# Altium footprint library cricket-node-hw__B.PcbLib: 47 footprints (part 1 of 3)
Each footprint in its own frame and in the unit in brackets; x right, y up, seen from the top. Pads: shape width x height; smd on the part's side, far side on the other; paste and mask are expansions set on the pad; w line width, h text height; cw(c..) or ccw(c..) is an arc to the next point about the centre after c.
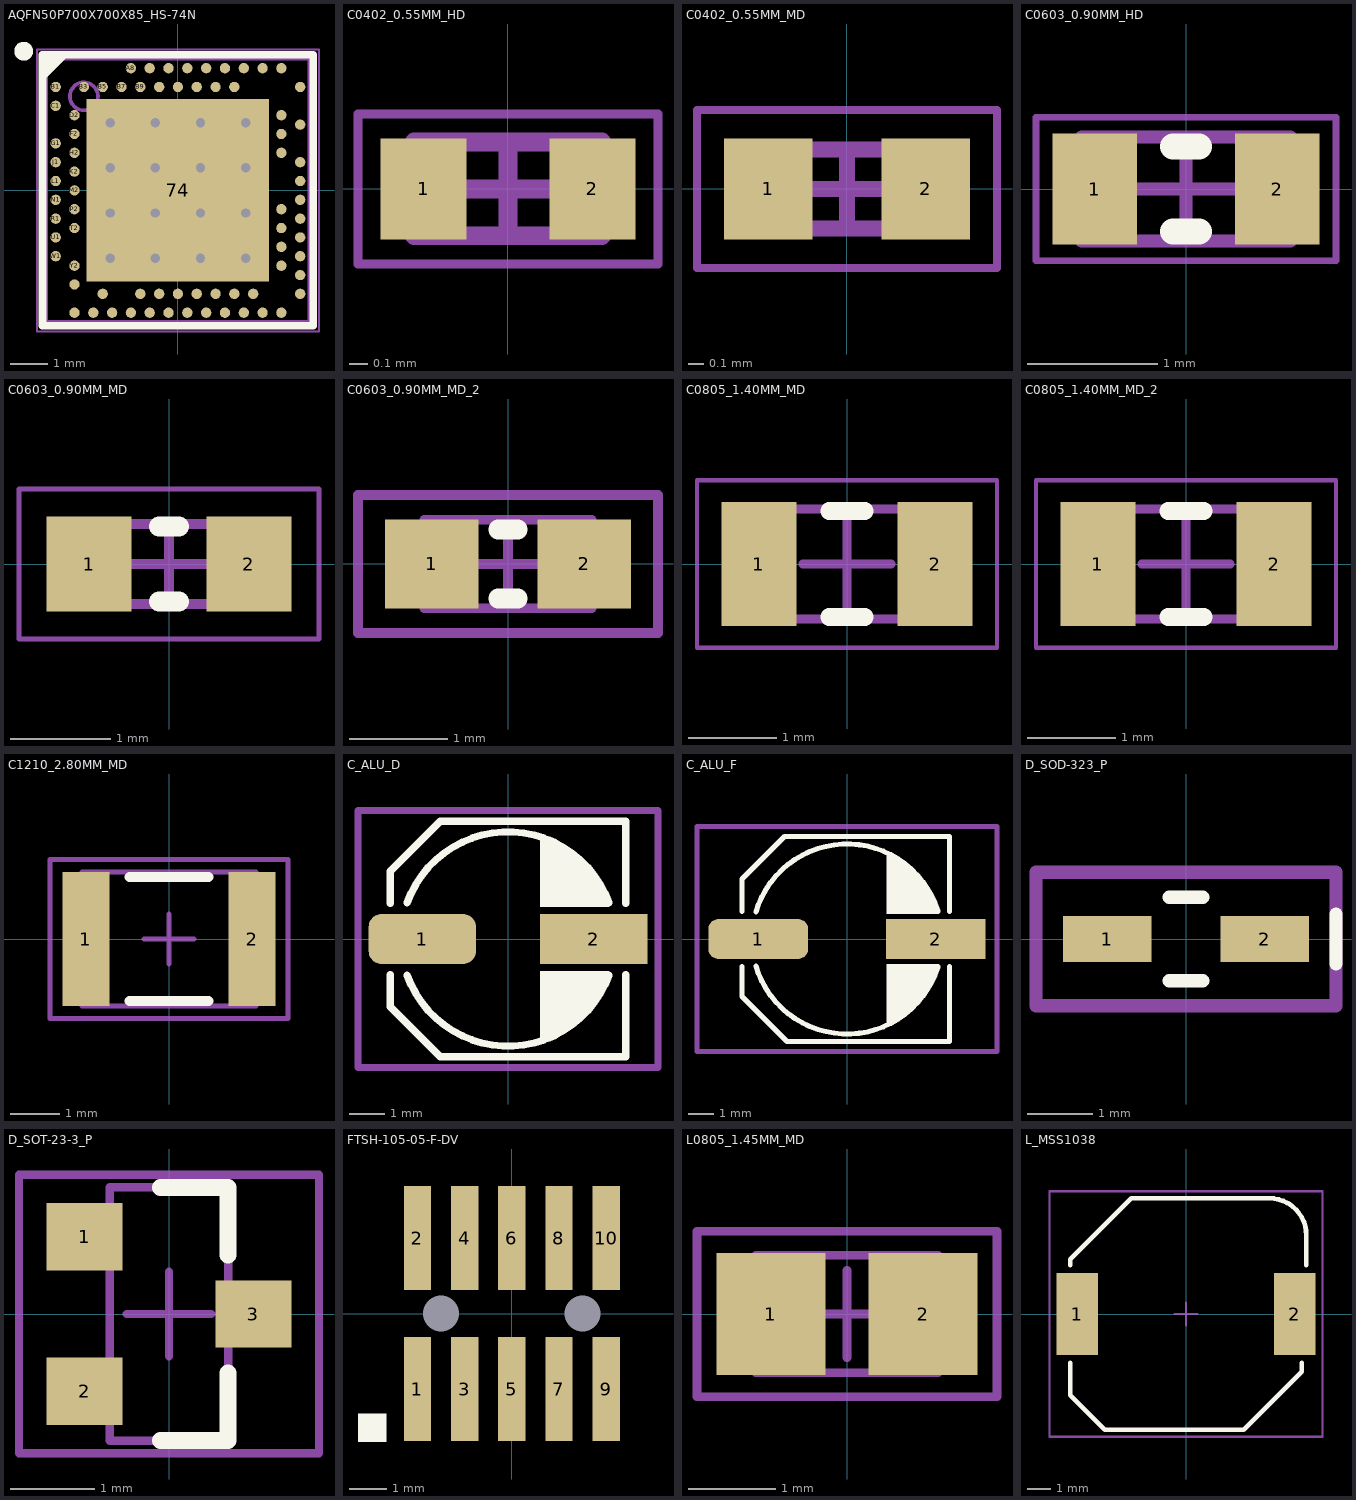
[diagram p0: the footprints below, top view; thin cyan lines are the x and y axes]

## AQFN50P700X700X85_HS-74N [mm] "AQFN, 73-Leads, Body 7.00x7.00mm, Pitch 0.50mm, Thermal Pad 4.95x4.95mm, IPC Medium Density"
height 0.85
pads (74):
  rect 4.85x4.85 smd mask+0.05: 74(0,0)
  round 0.275 smd paste+0.012 mask+0.05: A8(-1.25,3.25) A10(-0.75,3.25) A12(-0.25,3.25) A14(0.25,3.25) A16(0.75,3.25) A18(1.25,3.25) A20(1.75,3.25) A22(2.25,3.25) A23(2.75,3.25) AA24(3.25,-2.25) AB2(-2.75,-2.5) AC5(-2,-2.75) AC9(-1,-2.75) AC11(-0.5,-2.75) AC13(0,-2.75) AC15(0.5,-2.75) AC17(1,-2.75) AC19(1.5,-2.75) AC21(2,-2.75) AC24(3.25,-2.75) AD2(-2.75,-3.25) AD4(-2.25,-3.25) AD6(-1.75,-3.25) AD8(-1.25,-3.25) AD10(-0.75,-3.25) AD12(-0.25,-3.25) AD14(0.25,-3.25) AD16(0.75,-3.25) AD18(1.25,-3.25) AD20(1.75,-3.25) AD22(2.25,-3.25) AD23(2.75,-3.25) B1(-3.25,2.75) B3(-2.5,2.75) B5(-2,2.75) B7(-1.5,2.75) B9(-1,2.75) B11(-0.5,2.75) B13(0,2.75) B15(0.5,2.75) B17(1,2.75) B19(1.5,2.75) B24(3.25,2.75) C1(-3.25,2.25) D2(-2.75,2) D23(2.75,2) E24(3.25,1.75) F2(-2.75,1.5) F23(2.75,1.5) G1(-3.25,1.25) H2(-2.75,1) H23(2.75,1) J1(-3.25,0.75) J24(3.25,0.75) K2(-2.75,0.5) L1(-3.25,0.25) L24(3.25,0.25) M2(-2.75,0) N1(-3.25,-0.25) N24(3.25,-0.25) P2(-2.75,-0.5) P23(2.75,-0.5) R1(-3.25,-0.75) R24(3.25,-0.75) T2(-2.75,-1) T23(2.75,-1) U1(-3.25,-1.25) U24(3.25,-1.25) V23(2.75,-1.5) W1(-3.25,-1.75) W24(3.25,-1.75) Y2(-2.75,-2) Y23(2.75,-2)
via 1.8,-1.8 diameter 0.5 hole 0.25
via 0.6,-1.8 diameter 0.5 hole 0.25
via -0.6,-1.8 diameter 0.5 hole 0.25
via -1.8,-1.8 diameter 0.5 hole 0.25
via 1.8,-0.6 diameter 0.5 hole 0.25
via 0.6,-0.6 diameter 0.5 hole 0.25
via -0.6,-0.6 diameter 0.5 hole 0.25
via -1.8,-0.6 diameter 0.5 hole 0.25
via 1.8,0.6 diameter 0.5 hole 0.25
via 0.6,0.6 diameter 0.5 hole 0.25
via -0.6,0.6 diameter 0.5 hole 0.25
via -1.8,0.6 diameter 0.5 hole 0.25
via 1.8,1.8 diameter 0.5 hole 0.25
via 0.6,1.8 diameter 0.5 hole 0.25
via -0.6,1.8 diameter 0.5 hole 0.25
via -1.8,1.8 diameter 0.5 hole 0.25
Top Overlay:
  circle w0.25: c-4.1,3.7 r0.125
  region: -3,3.5 -3.5,3 -3.5,3.5
  lines w0.2: -3.6,-3.6 3.6,-3.6 3.6,3.6 -3.6,3.6 -3.6,-3.6
Top Courtyard:
  lines w0.05: -3.75,-3.75 3.75,-3.75 3.75,3.75 -3.75,3.75 -3.75,-3.75
  lines w0.1: -0.5,0 0.5,0 ; 0,-0.5 0,0.5
Mechanical 7:
  circle w0.1: c-2.5,2.5 r0.373
  lines w0.1: -3.5,-3.5 -3.5,3.5 3.5,3.5 3.5,-3.5 -3.5,-3.5
  text ".Designator" at -1.524,-0.102 h0.3
3D body "aQFN-73.step": height 0.87, standoff -0.03, extent -3.5,-3.5 3.5,3.5

## C0402_0.55MM_HD [mm] "Chip Capacitor, 2-Leads, Body 1.00x0.50mm, IPC High Density"
height 0.55
pads (2):
  rect 0.46x0.54 smd: 1(-0.45,0) 2(0.45,0)
Mechanical 13:
  lines w0.1: -0.5,-0.25 -0.5,0.25 0.5,0.25 0.5,-0.25 -0.5,-0.25
Mechanical 15:
  lines w0.05: -0.8,-0.4 -0.8,0.4 0.8,0.4 0.8,-0.4 -0.8,-0.4
  lines w0.1: -0.25,0 0.25,0 ; 0,-0.25 0,0.25
3D body "CAPC1005X06L.step": height 0.55, standoff 0, extent -0.5,-0.25 0.5,0.25

## C0402_0.55MM_MD [mm] "Chip Capacitor, 2-Leads, Body 1.00x0.50mm, IPC Medium Density"
height 0.55
pads (2):
  rect 0.56x0.64 smd: 1(-0.5,0) 2(0.5,0)
Mechanical 13:
  lines w0.1: -0.5,-0.25 -0.5,0.25 0.5,0.25 0.5,-0.25 -0.5,-0.25
Mechanical 15:
  lines w0.05: -0.95,-0.5 -0.95,0.5 0.95,0.5 0.95,-0.5 -0.95,-0.5
  lines w0.1: -0.25,0 0.25,0 ; 0,-0.25 0,0.25
3D body "CAPC1005X06N.step": height 0.55, standoff 0, extent -0.5,-0.25 0.5,0.25

## C0603_0.90MM_HD [mm] "Chip Capacitor, 2-Leads, Body 1.60x0.80mm, IPC High Density"
height 0.9
pads (2):
  rect 0.65x0.85 smd: 1(-0.7,0) 2(0.7,0)
Top Overlay:
  lines w0.2: -0.1,-0.325 0.1,-0.325 ; -0.1,0.325 0.1,0.325
Mechanical 13:
  lines w0.1: -0.8,-0.4 -0.8,0.4 0.8,0.4 0.8,-0.4 -0.8,-0.4
Mechanical 15:
  lines w0.05: -1.15,-0.55 -1.15,0.55 1.15,0.55 1.15,-0.55 -1.15,-0.55
  lines w0.1: -0.4,0 0.4,0 ; 0,-0.4 0,0.4
3D body "CAPC1608X09L.step": height 0.9, standoff 0, extent -0.8,-0.4 0.8,0.4

## C0603_0.90MM_MD [mm] "Chip Capacitor, 2-Leads, Body 1.60x0.80mm, IPC Medium Density"
height 0.9
pads (2):
  rect 0.85x0.95 smd: 1(-0.8,0) 2(0.8,0)
Top Overlay:
  lines w0.2: -0.1,-0.375 0.1,-0.375 ; -0.1,0.375 0.1,0.375
Mechanical 13:
  lines w0.1: -0.8,-0.4 -0.8,0.4 0.8,0.4 0.8,-0.4 -0.8,-0.4
Mechanical 15:
  lines w0.05: -1.5,-0.75 -1.5,0.75 1.5,0.75 1.5,-0.75 -1.5,-0.75
  lines w0.1: -0.4,0 0.4,0 ; 0,-0.4 0,0.4
3D body "CAPC1608X09N.step": height 0.9, standoff 0, extent -0.8,-0.4 0.8,0.4

## C0603_0.90MM_MD_2 [mm]
pads (2):
  rect 0.95x0.9 smd: 1(-0.775,0) 2(0.775,0)
Top Overlay:
  lines w0.2: -0.1,-0.35 0.1,-0.35 ; -0.1,0.35 0.1,0.35
Mechanical 13:
  lines w0.1: -0.85,-0.45 -0.85,0.45 0.85,0.45 0.85,-0.45 -0.85,-0.45
Mechanical 15:
  lines w0.1: -0.45,0 0.45,0 ; 0,-0.45 0,0.45 ; -1.525,-0.7 -1.525,0.7 1.525,0.7 1.525,-0.7 -1.525,-0.7
3D body "0603_0.90mm.STEP": height 0.9, standoff 0, extent -0.8,-0.4 0.8,0.4

## C0805_1.40MM_MD [mm] "Chip Capacitor, 2-Leads, Body 2.00x1.25mm, IPC Medium Density"
height 1.4
pads (2):
  rect 0.85x1.4 smd: 1(-1,0) 2(1,0)
Top Overlay:
  lines w0.2: -0.2,-0.6 0.2,-0.6 ; -0.2,0.6 0.2,0.6
Mechanical 13:
  lines w0.1: -1,-0.625 1,-0.625 1,0.625 -1,0.625 -1,-0.625
Mechanical 15:
  lines w0.05: -1.7,-0.95 1.7,-0.95 1.7,0.95 -1.7,0.95 -1.7,-0.95
  lines w0.1: -0.5,0 0.5,0 ; 0,-0.5 0,0.5
3D body "CAPC2012X14N.step": height 1.4, standoff 0, extent -1,-0.625 1,0.625

## C0805_1.40MM_MD_2 [mm]
pads (2):
  rect 0.85x1.4 smd: 1(-1,0) 2(1,0)
Top Overlay:
  lines w0.2: -0.2,-0.6 0.2,-0.6 ; -0.2,0.6 0.2,0.6
Mechanical 13:
  lines w0.1: -1,-0.625 1,-0.625 1,0.625 -1,0.625 -1,-0.625
Mechanical 15:
  lines w0.05: -1.7,-0.95 1.7,-0.95 1.7,0.95 -1.7,0.95 -1.7,-0.95
  lines w0.1: -0.5,0 0.5,0 ; 0,-0.5 0,0.5
3D body "CAPC2012X14N.step": height 1.4, standoff 0, extent -1,-0.625 1,0.625

## C1210_2.80MM_MD [mm] "Capacitor - 1210 - Medium Density"
height 2.8
pads (2):
  rect 0.95x2.7 smd: 1(-1.675,0) 2(1.675,0)
Top Overlay:
  lines w0.2: -0.8,-1.25 0.8,-1.25 ; -0.8,1.25 0.8,1.25
Mechanical 13:
  lines w0.1: -1.75,-1.35 -1.75,1.35 1.75,1.35 1.75,-1.35 -1.75,-1.35
Mechanical 15:
  lines w0.1: -0.5,0 0.5,0 ; 0,-0.5 0,0.5 ; -2.4,-1.6 -2.4,1.6 2.4,1.6 2.4,-1.6 -2.4,-1.6
3D body "1210_2.80mm.STEP": height 2.8, standoff 0, extent -1.6,-1.25 1.6,1.25

## C_ALU_D [mm] "6.3mm x 5.8mm"
height 5.8
pads (2):
  rrect50% 3x1.4 smd: 1(-2.4,0)
  rect 3x1.4 smd: 2(2.4,0)
Top Overlay:
  region: 2.825,1.009 2.825,0.9 0.9,0.9 0.9,2.9 0.995,2.9 1.182,2.863 1.357,2.79 1.516,2.684 1.583,2.617 2.567,1.633 2.628,1.572 2.725,1.427 2.791,1.267 2.825,1.096
  region: 2.825,-1.009 2.825,-0.9 0.9,-0.9 0.9,-2.9 0.995,-2.9 1.182,-2.863 1.357,-2.79 1.516,-2.684 1.583,-2.617 2.567,-1.633 2.628,-1.572 2.725,-1.427 2.791,-1.267 2.825,-1.096
  lines w0.203: -3.3,-1 -3.3,-1.9 -1.9,-3.3 3.3,-3.3 3.3,-1 ; -3.3,1 -3.3,1.9 -1.9,3.3 -1.5,3.3 3.3,3.3 3.3,1 ; -2.825,-1.009 ccw(c0,0) 2.825,-1.009 ; -2.825,1.009 cw(c0,0) 2.825,1.009
Mechanical 15:
  lines w0.203: -4.2,-3.6 -4.2,3.6 4.2,3.6 4.2,-3.6 0,-3.6 -4.2,-3.6
3D body "Cap_SMT_Aluminum_D.STEP": height 5.41, standoff -0.01, extent -3.5,-3.3 3.5,3.3

## C_ALU_F [mm] "8.0mm x 10.2mm"
height 10.2
pads (2):
  rrect50% 4x1.6 smd: 1(-3.55,0)
  rect 4x1.6 smd: 2(3.55,0)
Top Overlay:
  region: 3.663,-1.017 3.663,-1 1.6,-1 1.6,-3.4 2.2,-3.1 2.7,-2.7 3.1,-2.2 3.5,-1.5
  region: 3.663,1.017 3.663,1 1.6,1 1.6,3.4 2.2,3.1 2.7,2.7 3.1,2.2 3.5,1.5
  lines w0.203: -4.2,-1.1 -4.2,-2.3 -2.4,-4.1 -1.8,-4.1 4.1,-4.1 4.1,-1.1 ; -4.2,1.1 -4.2,2.4 -2.5,4.1 -1.8,4.1 4.1,4.1 4.1,1.1 ; -3.644,-1.083 ccw(c0,0) 3.635,-1.111 ; -3.644,1.083 cw(c0,0) 3.635,1.111
Mechanical 15:
  lines w0.203: -6,-4.5 -0.5,-4.5 6,-4.5 6,4.5 -6,4.5 -6,-4.5
3D body "Cap_SMT_Aluminum_F.STEP": height 10.22, standoff 0, extent -5,-4.15 4.9,4.15

## D_SOD-323_P [mm] "SOD-123 Diode - Polarized"
height 1.35
pads (2):
  rect 1.35x0.7 smd: 1(-1.2,0) 2(1.2,0)
Top Overlay:
  lines w0.203: -0.254,-0.635 0.254,-0.635 ; -0.254,0.635 0.254,0.635 ; 2.286,-0.381 2.286,0.381
Mechanical 15:
  lines w0.203: -2.286,-1.016 -2.286,1.016 2.286,1.016 2.286,-1.016 -0.084,-1.016 -2.286,-1.016
3D body "SOD-323.step": height 1.1, standoff 0, extent -1.3,-0.675 1.3,0.675

## D_SOT-23-3_P [mm] "Diode - SOT-23-3 - Polarized"
height 1.2
pads (3):
  rect 0.9x0.8 smd: 1(-1,0.915) 2(-1,-0.915) 3(1,0)
Top Overlay:
  lines w0.2: -0.1,-1.5 0.7,-1.5 0.7,-0.7 ; -0.1,1.5 0.7,1.5 0.7,0.7
Mechanical 13:
  lines w0.1: -0.7,-1.5 0.7,-1.5 0.7,1.5 -0.7,1.5 -0.7,-1.5
Mechanical 15:
  lines w0.1: -0.5,0 0.5,0 ; 0,-0.5 0,0.5 ; -1.778,-1.651 1.778,-1.651 1.778,1.651 -1.778,1.651 -1.778,-1.651
3D body "SOT-23.STEP": height 0.98, standoff -0.01, extent -1.2,-1.448 1.22,1.448

## FTSH-105-05-F-DV [mil]
height 62.99
pads (12):
  rect 29x110 smd: 1(-100,-80) 2(-100,80) 3(-50,-80) 4(-50,80) 5(0,-80) 6(0,80) 7(50,-80) 8(50,80) 9(100,-80) 10(100,80)
  rect 0x0 hole 38 unplated: M(-75,0) M(75,0)
Top Overlay:
  rectangle: -163,-136 -133,-106
3D body "Samtec-FTSH-105-05-F-DV-A.step": height 285.48, standoff -33.52, extent -125,-115 125,115

## L0805_1.45MM_MD [mm] "Inductor - 0805 - Medium Density"
height 1.45
pads (2):
  rect 1.25x1.4 smd: 1(-0.875,0) 2(0.875,0)
Mechanical 13:
  lines w0.1: -1.05,-0.675 1.05,-0.675 1.05,0.675 -1.05,0.675 -1.05,-0.675
Mechanical 15:
  lines w0.1: -0.5,0 0.5,0 ; 0,-0.5 0,0.5 ; -1.725,-0.95 1.725,-0.95 1.725,0.95 -1.725,0.95 -1.725,-0.95
3D body "0805_1.45mm.STEP": height 1.45, standoff 0, extent -1,-0.625 1,0.625

## L_MSS1038 [mm] "Coilcraft MSS1038 SMT Inductor"
height 3.8
pads (2):
  rect 1.78x3.56 smd: 1(-4.7,0) 2(4.7,0)
Top Overlay:
  lines w0.203: -5,-2.1 -5,-3.5 -3.5,-5 0,-5 2.493,-5 5,-2.493 5,-2.1 ; -5,2.1 -5,2.366 -2.366,5 0,5 3.6,5 cw(c3.6,3.4) 5.2,3.4 5.2,2.1
Mechanical 15:
  lines w0.1: -0.5,0 0.5,0 ; 0,-0.5 0,0.5 ; -5.9,-5.3 -5.9,5.3 -2.5,5.3 5.9,5.3 5.9,-5.3 -5.9,-5.3
3D body "Coilcraft-MSS1038.step": height 3.91, standoff -0.09, extent -5.045,-5.1 5.255,5.1